# EAGLE library part LPC1768FBD100,551 (library Microcontroller)
IC MCU 32BIT 512KB FLASH 100LQFP Manufacturer's datasheet <https://www.nxp.com/docs/en/data-sheet/LPC1769_68_67_66_65_64_63.pdf>
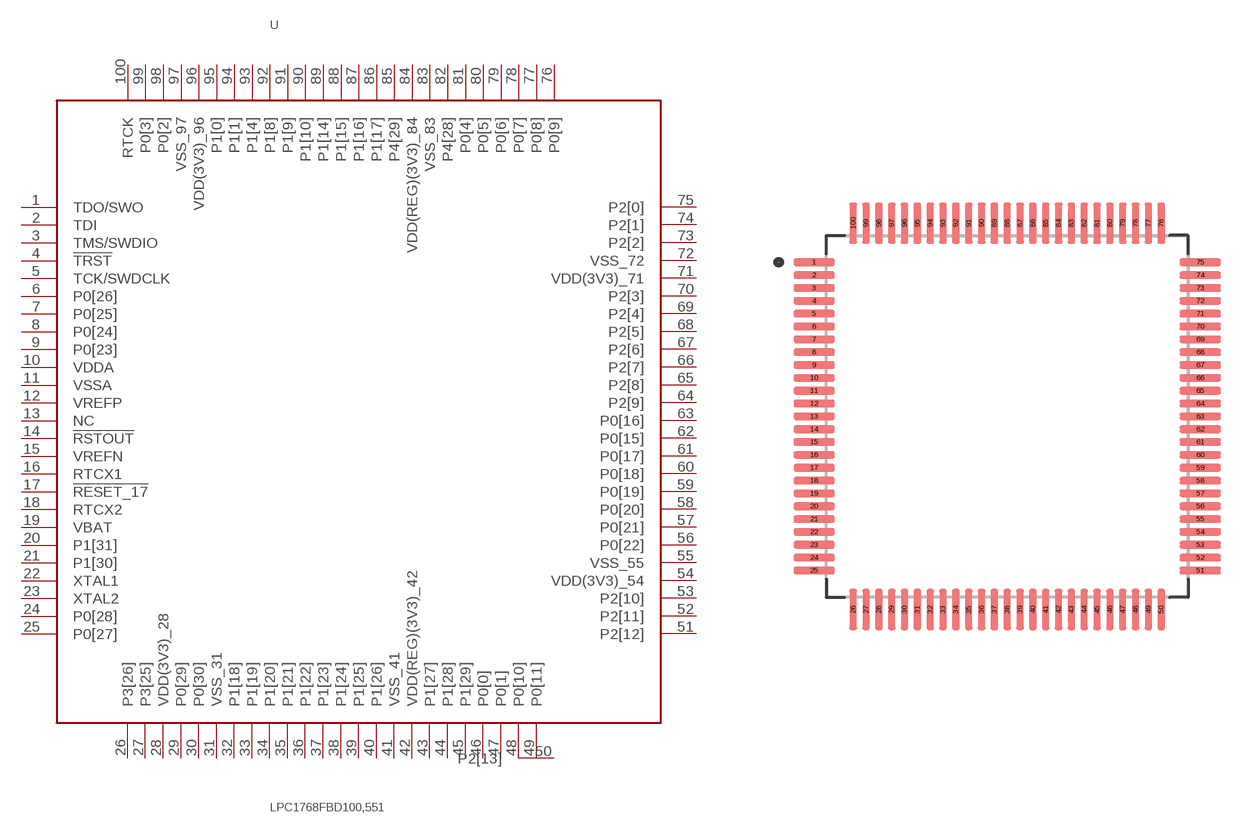
[diagram p2: symbol with the pads of LQFP-100; footprint LQFP-100]

Designator prefix U

## LPC1768FBD100,551 (CREATED_BY: PCBLayout.com; DIGI_KEY_PART_NUMBER: 568-4796-ND; MANUFACTURER: NXP USA Inc.; MPN: LPC1768FBD100,551; PACKAGE: 100-LQFP)  [LQFP-100]
1  TDO/SWO  out
2  TDI  in
3  TMS/SWDIO  pas
4  !TRST  in
5  TCK/SWDCLK  in
6  P0[26]
7  P0[25]
8  P0[24]
9  P0[23]
10  VDDA  in
11  VSSA  in
12  VREFP  in
13  NC  pas
14  !RSTOUT  out
15  VREFN  in
16  RTCX1  in
17  !RESET_17  in
18  RTCX2  out
19  VBAT  in
20  P1[31]  pas
21  P1[30]  pas
22  XTAL1  in
23  XTAL2  out
24  P0[28]
25  P0[27]
26  P3[26]  pas
27  P3[25]  pas
28  VDD(3V3)_28  in
29  P0[29]
30  P0[30]
31  VSS_31  in
32  P1[18]  pas
33  P1[19]  pas
34  P1[20]  pas
35  P1[21]  pas
36  P1[22]  pas
37  P1[23]  pas
38  P1[24]  pas
39  P1[25]  pas
40  P1[26]  pas
41  VSS_41  in
42  VDD(REG)(3V3)_42  in
43  P1[27]  pas
44  P1[28]  pas
45  P1[29]  pas
46  P0[0]  pas
47  P0[1]  pas
48  P0[10]
49  P0[11]  pas
50  P2[13]  sup
51  P2[12]  pas
52  P2[11]  pas
53  P2[10]  pas
54  VDD(3V3)_54  in
55  VSS_55  in
56  P0[22]  pas
57  P0[21]  pas
58  P0[20]  pas
59  P0[19]  pas
60  P0[18]  pas
61  P0[17]  pas
62  P0[15]  pas
63  P0[16]  pas
64  P2[9]  pas
65  P2[8]  pas
66  P2[7]  pas
67  P2[6]  pas
68  P2[5]  pas
69  P2[4]  pas
70  P2[3]  pas
71  VDD(3V3)_71  in
72  VSS_72  in
73  P2[2]  pas
74  P2[1]  pas
75  P2[0]  pas
76  P0[9]  pas
77  P0[8]  pas
78  P0[7]  pas
79  P0[6]  pas
80  P0[5]  pas
81  P0[4]  pas
82  P4[28]  pas
83  VSS_83  in
84  VDD(REG)(3V3)_84  in
85  P4[29]  pas
86  P1[17]
87  P1[16]  pas
88  P1[15]  pas
89  P1[14]  pas
90  P1[10]  pas
91  P1[9]  pas
92  P1[8]  pas
93  P1[4]  pas
94  P1[1]  pas
95  P1[0]  pas
96  VDD(3V3)_96  in
97  VSS_97  in
98  P0[2]  pas
99  P0[3]  pas
100  RTCK  out

## Footprint LQFP-100 (pad centres in mm)
Quad Flat Pack (QFP), 0.50 mm pitch; square, 25 pin X 25 pin, 14.00 mm L X 14.00 mm W X 1.60 mm H body PCB Libraries Packages
smd 1.61 x 0.3: 1 -7.525,6; 2 -7.525,5.5; 3 -7.525,5; 4 -7.525,4.5; 5 -7.525,4; 6 -7.525,3.5; 7 -7.525,3; 8 -7.525,2.5; 9 -7.525,2; 10 -7.525,1.5; 11 -7.525,1; 12 -7.525,0.5; 13 -7.525,0; 14 -7.525,-0.5; 15 -7.525,-1; 16 -7.525,-1.5; 17 -7.525,-2; 18 -7.525,-2.5; 19 -7.525,-3; 20 -7.525,-3.5; 21 -7.525,-4; 22 -7.525,-4.5; 23 -7.525,-5; 24 -7.525,-5.5; 25 -7.525,-6; 51 7.525,-6; 52 7.525,-5.5; 53 7.525,-5; 54 7.525,-4.5; 55 7.525,-4; 56 7.525,-3.5; 57 7.525,-3; 58 7.525,-2.5; 59 7.525,-2; 60 7.525,-1.5; 61 7.525,-1; 62 7.525,-0.5; 63 7.525,0; 64 7.525,0.5; 65 7.525,1; 66 7.525,1.5; 67 7.525,2; 68 7.525,2.5; 69 7.525,3; 70 7.525,3.5; 71 7.525,4; 72 7.525,4.5; 73 7.525,5; 74 7.525,5.5; 75 7.525,6
smd 0.3 x 1.61: 26 -6,-7.525; 27 -5.5,-7.525; 28 -5,-7.525; 29 -4.5,-7.525; 30 -4,-7.525; 31 -3.5,-7.525; 32 -3,-7.525; 33 -2.5,-7.525; 34 -2,-7.525; 35 -1.5,-7.525; 36 -1,-7.525; 37 -0.5,-7.525; 38 0,-7.525; 39 0.5,-7.525; 40 1,-7.525; 41 1.5,-7.525; 42 2,-7.525; 43 2.5,-7.525; 44 3,-7.525; 45 3.5,-7.525; 46 4,-7.525; 47 4.5,-7.525; 48 5,-7.525; 49 5.5,-7.525; 50 6,-7.525; 76 6,7.525; 77 5.5,7.525; 78 5,7.525; 79 4.5,7.525; 80 4,7.525; 81 3.5,7.525; 82 3,7.525; 83 2.5,7.525; 84 2,7.525; 85 1.5,7.525; 86 1,7.525; 87 0.5,7.525; 88 0,7.525; 89 -0.5,7.525; 90 -1,7.525; 91 -1.5,7.525; 92 -2,7.525; 93 -2.5,7.525; 94 -3,7.525; 95 -3.5,7.525; 96 -4,7.525; 97 -4.5,7.525; 98 -5,7.525; 99 -5.5,7.525; 100 -6,7.525